# EAGLE library part DMG6602SVT (library farnell-parts)
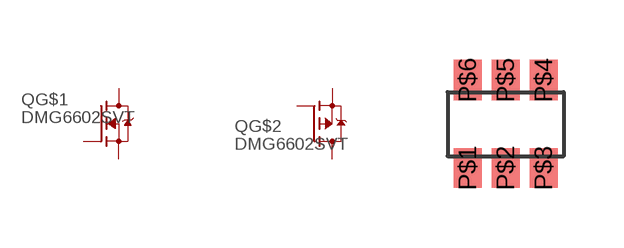
[diagram p2: symbol with the pads of TSOT26; footprint TSOT26]

Designator prefix Q; gates G$1=N-CHANNEL G$2=P-CHANNEL

## DMG6602SVT  [TSOT26]
P$1  G$1:G  pas
P$2  G$2:S  pas
P$3  G$2:G  pas
P$4  G$2:D  pas
P$5  G$1:S  pas
P$6  G$1:D  pas

## Footprint TSOT26 (pad centres in mm)
smd 0.7 x 1: P$1 0.4,-1.9; P$2 1.35,-1.9; P$3 2.3,-1.9; P$4 2.3,0.3; P$5 1.35,0.3; P$6 0.4,0.3